# Altium footprint library Capacitors.PcbLib: 4 footprints
Each footprint in its own frame and in the unit in brackets; x right, y up, seen from the top. Pads: shape width x height; smd on the part's side, far side on the other; paste and mask are expansions set on the pad; w line width, h text height; cw(c..) or ccw(c..) is an arc to the next point about the centre after c.
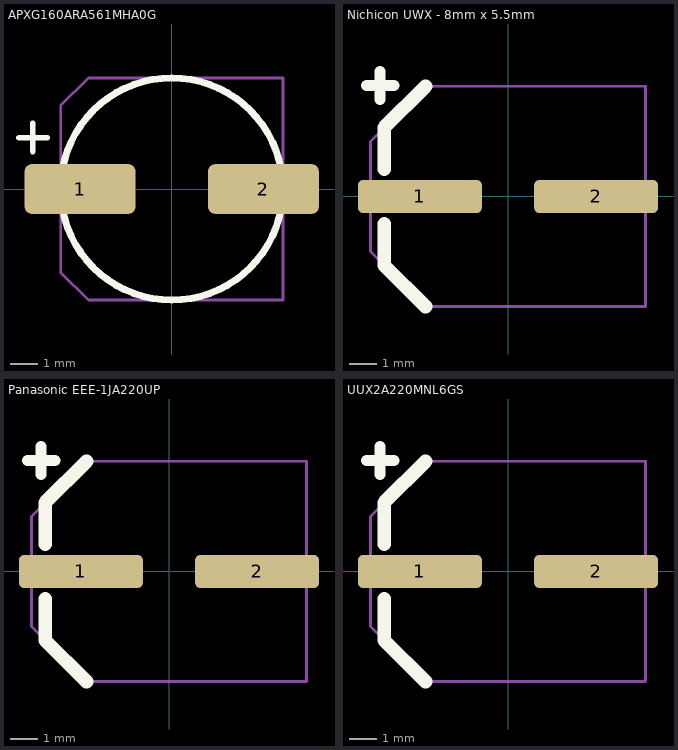
[diagram p0: the footprints below, top view; thin cyan lines are the x and y axes]

## APXG160ARA561MHA0G [mm]
height 10
pads (2):
  rrect30% 4x1.8 smd paste-0.03: 1(-3.3,0) 2(3.3,0)
Top Overlay:
  circle w0.254: c0,0 r4
  lines w0.2: -5.5,1.85 -4.484,1.85 ; -5,1.35 -5,2.366
Assembly:
  lines w0.1: -4,-3 -3,-4 4,-4 4,4 -3,4 -4,3 -4,-3
  text ".Designator" at -3.6,-0.5 h2
3D body: height 10, standoff 0, extent -4,-4 4,4
3D body: height 2, standoff 0, extent -4.15,-4.15 4.15,4.15

## Nichicon UWX - 8mm x 5.5mm [mm] "Electrolytic capacitor"
height 21.5
pads (2):
  rrect30% 4.5x1.2 smd paste-0.03: 1(-3.2,0) 2(3.2,0)
Top Overlay:
  lines w0.4: -5.15,4.025 -4.134,4.025 ; -4.65,3.525 -4.65,4.541
  lines w0.5: -4.5,-1 -4.5,-2.5 ; -4.5,1 -4.5,2.5 ; -3,-4 -4.5,-2.5 ; -3,4 -4.5,2.5 ; -4.5,-2.5 -4.5,-2.5 ; -4.5,-2.5 -4.5,-2.5 ; -4.5,2.5 -4.5,2.5
Assembly:
  lines w0.1: -5,2 -5,2 ; -5,2 -3,4 5,4 5,-4 -3,-4 -5,-2 -5,2
  text ".Designator" at -4.1,-0.6 h2
3D body "Nichicon-UWX-8x55.stp": height 5.7, standoff 0, extent -4.6,-4.15 4.7,4.15

## Panasonic EEE-1JA220UP [mm] "Electrolytic capacitor"
height 21.5
pads (2):
  rrect30% 4.5x1.2 smd paste-0.03: 1(-3.2,0) 2(3.2,0)
Top Overlay:
  lines w0.4: -5.15,4.025 -4.134,4.025 ; -4.65,3.525 -4.65,4.541
  lines w0.5: -4.5,-1 -4.5,-2.5 ; -4.5,1 -4.5,2.5 ; -3,-4 -4.5,-2.5 ; -3,4 -4.5,2.5 ; -4.5,-2.5 -4.5,-2.5 ; -4.5,-2.5 -4.5,-2.5 ; -4.5,2.5 -4.5,2.5
Assembly:
  lines w0.1: -5,2 -5,-2 -3,-4 5,-4 5,4 -3,4 -5,2 ; -5,2 -5,2
  text ".Designator" at -4.2,-0.6 h2
3D body "Panasonic-EEE-1JA220UP.stp": height 6.2, standoff 0, extent -4.6,-4.15 4.7,4.15

## UUX2A220MNL6GS [mm] "Electrolytic capacitor"
height 10.5
pads (2):
  rrect30% 4.5x1.2 smd paste-0.03: 1(-3.2,0) 2(3.2,0)
Top Overlay:
  lines w0.4: -5.15,4.025 -4.134,4.025 ; -4.65,3.525 -4.65,4.541
  lines w0.5: -4.5,-1 -4.5,-2.5 ; -4.5,1 -4.5,2.5 ; -3,-4 -4.5,-2.5 ; -3,4 -4.5,2.5 ; -4.5,-2.5 -4.5,-2.5 ; -4.5,-2.5 -4.5,-2.5 ; -4.5,2.5 -4.5,2.5
Assembly:
  lines w0.1: -5,2 -5,-2 -3,-4 5,-4 5,4 -3,4 -5,2 ; -5,2 -5,2
  text ".Designator" at -4.2,-0.6 h2
3D body "Nichicon UUX2A220MNL6GS.stp": height 11.3, standoff 0, extent -4.6,-4.15 4.7,4.15